# Altium schematic symbol library ZLDO1117.Schlib: 1 symbol
Pins are listed as number, name and electrical type; pins without a type are passive.

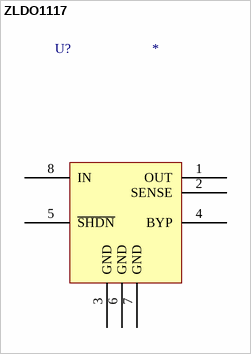
[diagram p0: symbol ZLDO1117]

## ZLDO1117
designator U?
pins: 1 OUT, 2 SENSE, 3 GND, 4 BYP, 5 ~{SHDN}, 6 GND, 7 GND, 8 IN
1 alternate drawing of the same symbol